# Altium schematic symbol library MP5075LGTF-P.SchLib: 1 symbol
Pins are listed as number, name and electrical type; pins without a type are passive.

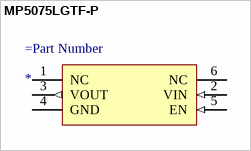
[diagram p0: symbol MP5075LGTF-P]

## MP5075LGTF-P
designator =Part Number
=Description
pins: 1 NC, 2 VIN (in), 3 VOUT (out), 4 GND (power), 5 EN (in), 6 NC